# Altium schematic symbol library SCH - POWER - SWITCHMODE - ANALOG LTC7805.SCHLIB: 1 symbol
Pins are listed as number, name and electrical type; pins without a type are passive.

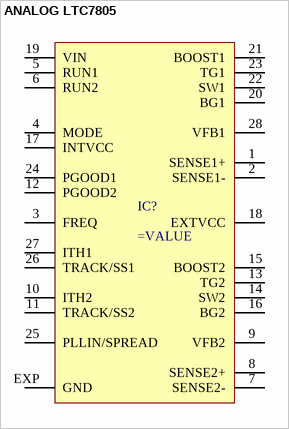
[diagram p0: symbol ANALOG LTC7805]

## ANALOG LTC7805
designator IC?
pins: 1 SENSE1+, 2 SENSE1-, 3 FREQ, 4 MODE, 5 RUN1, 6 RUN2, 7 SENSE2-, 8 SENSE2+, 9 VFB2, 10 ITH2, 11 TRACK/SS2, 12 PGOOD2, 13 TG2, 14 SW2, 15 BOOST2, 16 BG2, 17 INTVCC, 18 EXTVCC, 19 VIN, 20 BG1, 21 BOOST1, 22 SW1, 23 TG1, 24 PGOOD1, 25 PLLIN/SPREAD, 26 TRACK/SS1, 27 ITH1, 28 VFB1, EXP GND